# Altium schematic symbol library Microchip PIC12.SchLib: 457 symbols (part 15 of 15)
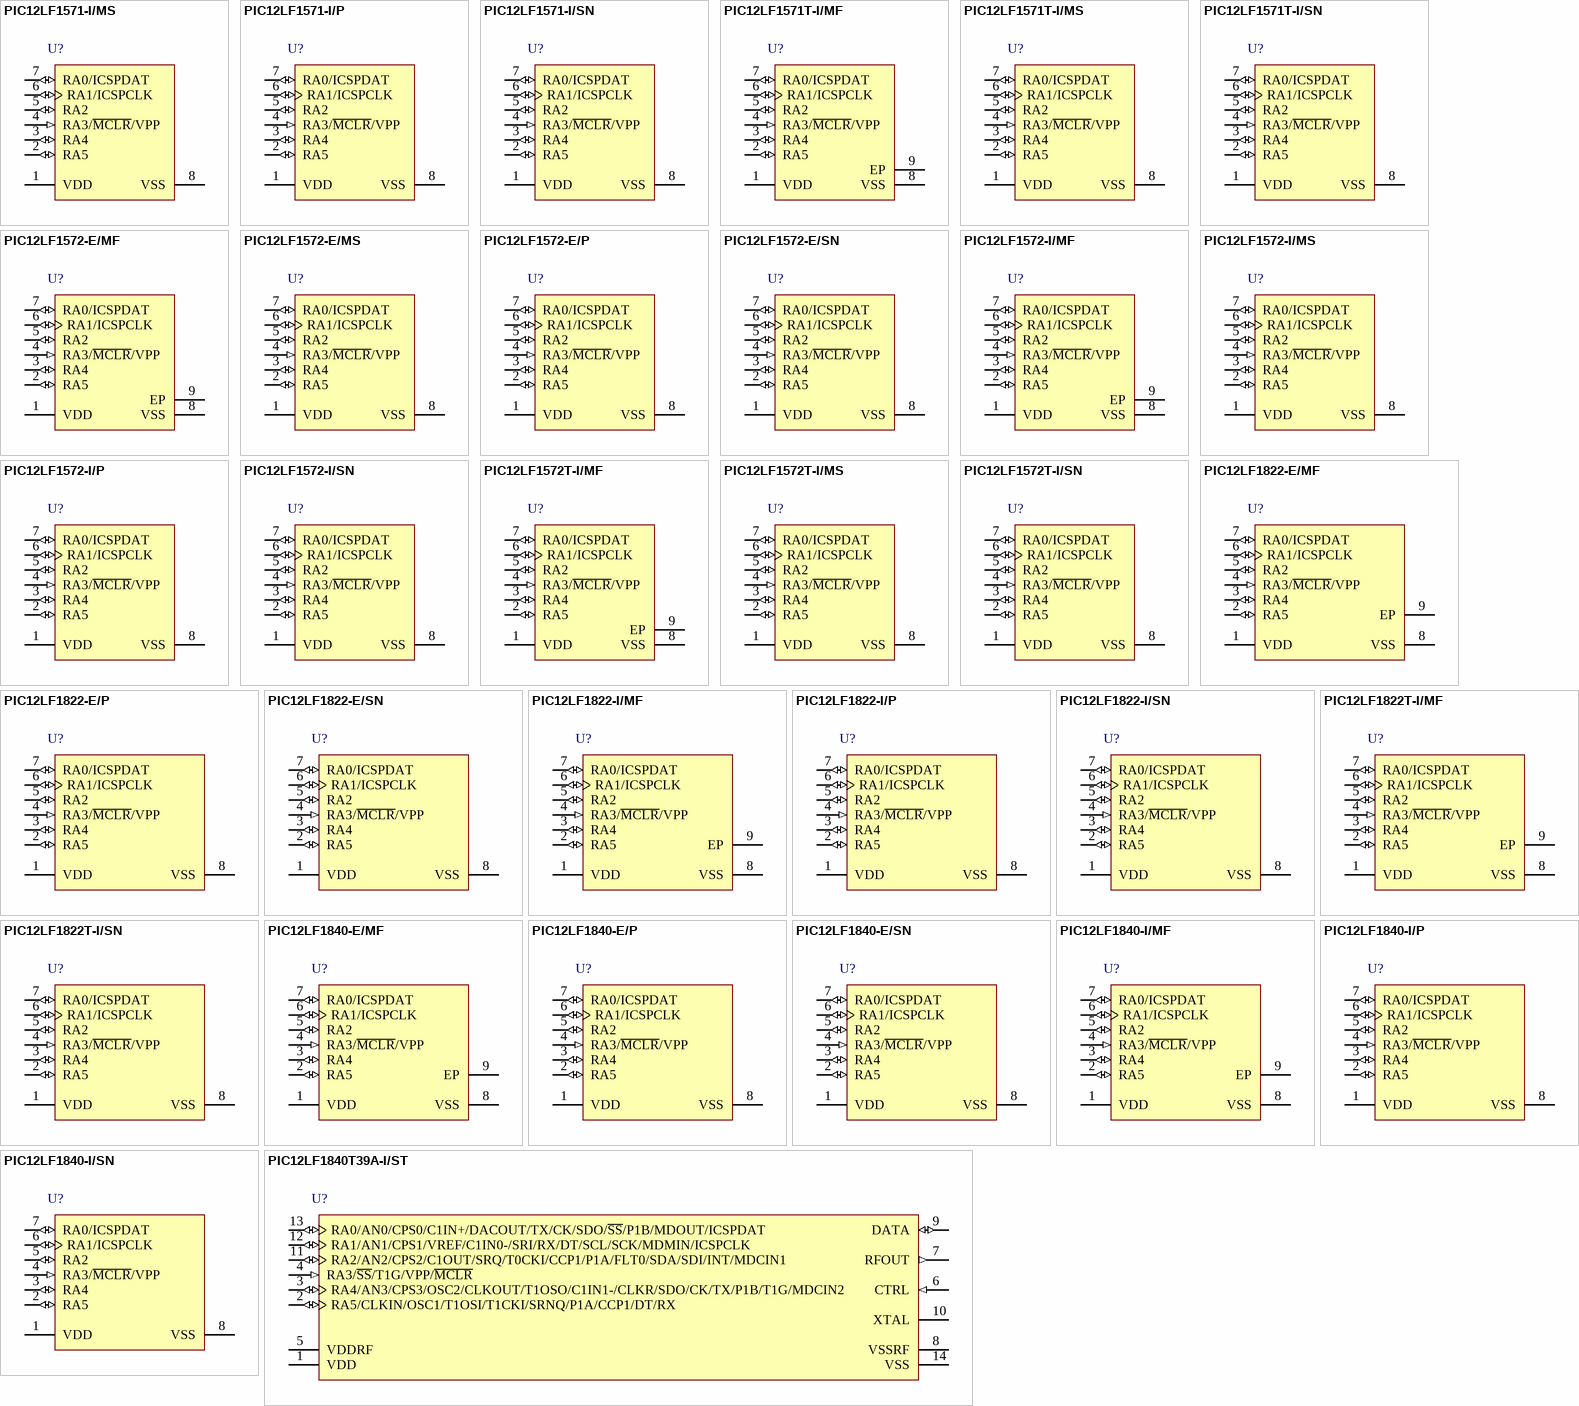
[diagram p29: symbols PIC12LF1571-I/MS to PIC12LF1840T39A-I/ST]

## PIC12LF1822-E/P
designator U?
Flash Microcontroller with XLP Technology, 32 MHz, 5 I/O, -40 to 125 degC, 8-pin PDIP (P8), Tube; Manufacturer: Microchip; PartNumber: PIC12LF1822-E/P; # of A/D Channels: 4; Digital Communication: 1 -A/E/USART, 1 -MSSP(SPI/I2C); EEPROM Data Memory (bytes): 256; I/O Pins: 5; Internal Oscillator: 32 MHz, 31 kHz; Max. CPU Speed MHz: 32; Operation Voltage Range: 1.8V - 3.6V; Program Memory KBytes: 3.5; Program Memory KWords: 2; RAM: 128; Timers: 2 - 8-bit, 1 - 16-bit, 0 - 32-bit; DatasheetVersion: Rev. C; PackageVersion: C04-018B, 12/2012; PackageReference: PDIP-P8; PackageDescription: 8-Lead Plastic Dual In-Line, Row Spacing 7.62 mm, 9.5 x 6.6 mm Body, 2.54 mm Pitch; Supplier 1: Digi-Key; Supplier Part Number 1: PIC12LF1822-E/P-ND; Supplier 2: Mouser; Supplier Part Number 2: 579-PIC12LF1822EP; Memory Type: Flash; Packing: TUBE; Mounting Technology: Through Hole; ComponentLink1Description: Datasheet; ComponentLink1URL: http://ww1.microchip.com/downloads/en/DeviceDoc/41413C.pdf; ComponentLink2Description: Package Specification; ComponentLink2URL: http://www.microchip.com/stellent/groups/techpub_sg/documents/packagingspec/en012702.pdf; ComponentLink3Description: URL Link1; ComponentLink3URL: Product URL:http://www.microchip.com/datasheet/PIC12F1822
footprint MCHP-PDIP-P8 (PDIP, 8-Leads, Body 9.5x6.604mm, Pitch 2.54mm)
pins: 1 VDD (power) "Positive supply.", 2 RA5 (io), 3 RA4 (io), 4 RA3/~{MCLR}/VPP (in), 5 RA2 (io), 6 RA1/ICSPCLK (io), 7 RA0/ICSPDAT (io), 8 VSS (power) "Ground reference."

## PIC12LF1822-E/SN
designator U?
Flash Microcontroller with XLP Technology, 32 MHz, 5 I/O, -40 to 125 degC, 8-pin SOIC (SN8), Tube; Manufacturer: Microchip; PartNumber: PIC12LF1822-E/SN; # of A/D Channels: 4; Digital Communication: 1 -A/E/USART, 1 -MSSP(SPI/I2C); EEPROM Data Memory (bytes): 256; I/O Pins: 5; Internal Oscillator: 32 MHz, 31 kHz; Max. CPU Speed MHz: 32; Operation Voltage Range: 1.8V - 3.6V; Program Memory KBytes: 3.5; Program Memory KWords: 2; RAM: 128; Timers: 2 - 8-bit, 1 - 16-bit, 0 - 32-bit; DatasheetVersion: Rev. C; PackageVersion: C04-057C, 12/2012; PackageReference: SOIC-SN8; PackageDescription: 8-Lead Plastic Small Outline, 4.9 x 3.9 mm Body, 1.27 mm Pitch; Supplier 1: Digi-Key; Supplier Part Number 1: PIC12LF1822-E/SN-ND; Supplier 2: Newark; Supplier Part Number 2: 73R8377; Supplier 3: Mouser; Supplier Part Number 3: 579-PIC12LF1822ESN; Memory Type: Flash; Packing: TUBE; Mounting Technology: Surface Mount; ComponentLink1Description: Datasheet; ComponentLink1URL: http://ww1.microchip.com/downloads/en/DeviceDoc/41413C.pdf; ComponentLink2Description: Package Specification; ComponentLink2URL: http://www.microchip.com/stellent/groups/techpub_sg/documents/packagingspec/en012702.pdf; ComponentLink3Description: URL Link1; ComponentLink3URL: Product URL:http://www.microchip.com/datasheet/PIC12F1822
footprint MCHP-SOIC-SN8_N (SOIC, 8-Leads, Body 4.9x3.9mm, Pitch 1.27mm, IPC Medium Density)
footprint MCHP-SOIC-SN8_L (SOIC, 8-Leads, Body 4.9x3.9mm, Pitch 1.27mm, IPC High Density)
footprint MCHP-SOIC-SN8_M (SOIC, 8-Leads, Body 4.9x3.9mm, Pitch 1.27mm, IPC Low Density)
pins: 1 VDD (power) "Positive supply.", 2 RA5 (io), 3 RA4 (io), 4 RA3/~{MCLR}/VPP (in), 5 RA2 (io), 6 RA1/ICSPCLK (io), 7 RA0/ICSPDAT (io), 8 VSS (power) "Ground reference."

## PIC12LF1822-I/MF
designator U?
Flash Microcontroller with XLP Technology, 32 MHz, 5 I/O, -40 to 85 degC, 8-pin DFN (MF8), Tube; Manufacturer: Microchip; PartNumber: PIC12LF1822-I/MF; # of A/D Channels: 4; Digital Communication: 1 -A/E/USART, 1 -MSSP(SPI/I2C); EEPROM Data Memory (bytes): 256; I/O Pins: 5; Internal Oscillator: 32 MHz, 31 kHz; Max. CPU Speed MHz: 32; Operation Voltage Range: 1.8V - 3.6V; Program Memory KBytes: 3.5; Program Memory KWords: 2; RAM: 128; Timers: 2 - 8-bit, 1 - 16-bit, 0 - 32-bit; DatasheetVersion: Rev. C; PackageVersion: C04-062C, 12/2012; PackageReference: DFN-MF8; PackageDescription: 8-Lead Plastic Dual Flat, No Lead Package, 3 x 3 mm Body, 0.65 mm Pitch; Supplier 1: Digi-Key; Supplier Part Number 1: PIC12LF1822-I/MF-ND; Supplier 2: Farnell; Supplier Part Number 2: 1814914; Supplier 3: Newark; Supplier Part Number 3: 63R7789; Supplier 4: Mouser; Supplier Part Number 4: 579-PIC12LF1822-I/MF; Memory Type: Flash; Packing: TUBE; Mounting Technology: Surface Mount; ComponentLink1Description: Datasheet; ComponentLink1URL: http://ww1.microchip.com/downloads/en/DeviceDoc/41413C.pdf; ComponentLink2Description: Package Specification; ComponentLink2URL: http://www.microchip.com/stellent/groups/techpub_sg/documents/packagingspec/en012702.pdf; ComponentLink3Description: URL Link1; ComponentLink3URL: Product URL:http://www.microchip.com/datasheet/PIC12F1822
footprint MCHP-DFN-MF8_V (SON, 8-Leads, Body 3x3mm, Pitch 0.65mm, Thermal Pad 2.4x1.55mm)
pins: 1 VDD (power) "Positive supply.", 2 RA5 (io), 3 RA4 (io), 4 RA3/~{MCLR}/VPP (in), 5 RA2 (io), 6 RA1/ICSPCLK (io), 7 RA0/ICSPDAT (io), 8 VSS (power) "Ground reference.", 9 EP

## PIC12LF1822-I/P
designator U?
Flash Microcontroller with XLP Technology, 32 MHz, 5 I/O, -40 to 85 degC, 8-pin PDIP (P8), Tube; Manufacturer: Microchip; PartNumber: PIC12LF1822-I/P; # of A/D Channels: 4; Digital Communication: 1 -A/E/USART, 1 -MSSP(SPI/I2C); EEPROM Data Memory (bytes): 256; I/O Pins: 5; Internal Oscillator: 32 MHz, 31 kHz; Max. CPU Speed MHz: 32; Operation Voltage Range: 1.8V - 3.6V; Program Memory KBytes: 3.5; Program Memory KWords: 2; RAM: 128; Timers: 2 - 8-bit, 1 - 16-bit, 0 - 32-bit; DatasheetVersion: Rev. C; PackageVersion: C04-018B, 12/2012; PackageReference: PDIP-P8; PackageDescription: 8-Lead Plastic Dual In-Line, Row Spacing 7.62 mm, 9.5 x 6.6 mm Body, 2.54 mm Pitch; Supplier 1: Digi-Key; Supplier Part Number 1: PIC12LF1822-I/P-ND; Supplier 2: Farnell; Supplier Part Number 2: 1971860; Supplier 3: Newark; Supplier Part Number 3: 53R0213; Supplier 4: Newark; Supplier Part Number 4: 58T9871; Supplier 5: Mouser; Supplier Part Number 5: 579-PIC12LF1822-I/P; Memory Type: Flash; Packing: TUBE; Mounting Technology: Through Hole; ComponentLink1Description: Datasheet; ComponentLink1URL: http://ww1.microchip.com/downloads/en/DeviceDoc/41413C.pdf; ComponentLink2Description: Package Specification; ComponentLink2URL: http://www.microchip.com/stellent/groups/techpub_sg/documents/packagingspec/en012702.pdf; ComponentLink3Description: URL Link1; ComponentLink3URL: Product URL:http://www.microchip.com/datasheet/PIC12F1822
footprint MCHP-PDIP-P8 (PDIP, 8-Leads, Body 9.5x6.604mm, Pitch 2.54mm)
pins: 1 VDD (power) "Positive supply.", 2 RA5 (io), 3 RA4 (io), 4 RA3/~{MCLR}/VPP (in), 5 RA2 (io), 6 RA1/ICSPCLK (io), 7 RA0/ICSPDAT (io), 8 VSS (power) "Ground reference."

## PIC12LF1822-I/SN
designator U?
Flash Microcontroller with XLP Technology, 32 MHz, 5 I/O, -40 to 85 degC, 8-pin SOIC (SN8), Tube; Manufacturer: Microchip; PartNumber: PIC12LF1822-I/SN; # of A/D Channels: 4; Digital Communication: 1 -A/E/USART, 1 -MSSP(SPI/I2C); EEPROM Data Memory (bytes): 256; I/O Pins: 5; Internal Oscillator: 32 MHz, 31 kHz; Max. CPU Speed MHz: 32; Operation Voltage Range: 1.8V - 3.6V; Program Memory KBytes: 3.5; Program Memory KWords: 2; RAM: 128; Timers: 2 - 8-bit, 1 - 16-bit, 0 - 32-bit; DatasheetVersion: Rev. C; PackageVersion: C04-057C, 12/2012; PackageReference: SOIC-SN8; PackageDescription: 8-Lead Plastic Small Outline, 4.9 x 3.9 mm Body, 1.27 mm Pitch; Supplier 1: Digi-Key; Supplier Part Number 1: PIC12LF1822-I/SN-ND; Supplier 2: Farnell; Supplier Part Number 2: 1971861; Supplier 3: Newark; Supplier Part Number 3: 53R0214; Supplier 4: Mouser; Supplier Part Number 4: 579-PIC12LF1822-I/SN; Memory Type: Flash; Packing: TUBE; Mounting Technology: Surface Mount; ComponentLink1Description: Datasheet; ComponentLink1URL: http://ww1.microchip.com/downloads/en/DeviceDoc/41413C.pdf; ComponentLink2Description: Package Specification; ComponentLink2URL: http://www.microchip.com/stellent/groups/techpub_sg/documents/packagingspec/en012702.pdf; ComponentLink3Description: URL Link1; ComponentLink3URL: Product URL:http://www.microchip.com/datasheet/PIC12F1822
footprint MCHP-SOIC-SN8_N (SOIC, 8-Leads, Body 4.9x3.9mm, Pitch 1.27mm, IPC Medium Density)
footprint MCHP-SOIC-SN8_L (SOIC, 8-Leads, Body 4.9x3.9mm, Pitch 1.27mm, IPC High Density)
footprint MCHP-SOIC-SN8_M (SOIC, 8-Leads, Body 4.9x3.9mm, Pitch 1.27mm, IPC Low Density)
pins: 1 VDD (power) "Positive supply.", 2 RA5 (io), 3 RA4 (io), 4 RA3/~{MCLR}/VPP (in), 5 RA2 (io), 6 RA1/ICSPCLK (io), 7 RA0/ICSPDAT (io), 8 VSS (power) "Ground reference."

## PIC12LF1822T-I/MF
designator U?
Flash Microcontroller with XLP Technology, 32 MHz, 5 I/O, -40 to 85 degC, 8-pin DFN (MF8), Tape and Reel; Manufacturer: Microchip; PartNumber: PIC12LF1822T-I/MF; # of A/D Channels: 4; Digital Communication: 1 -A/E/USART, 1 -MSSP(SPI/I2C); EEPROM Data Memory (bytes): 256; I/O Pins: 5; Internal Oscillator: 32 MHz, 31 kHz; Max. CPU Speed MHz: 32; Operation Voltage Range: 1.8V - 3.6V; Packing: T/R; Program Memory KBytes: 3.5; Program Memory KWords: 2; RAM: 128; Timers: 2 - 8-bit, 1 - 16-bit, 0 - 32-bit; DatasheetVersion: Rev. C; PackageVersion: C04-062C, 12/2012; PackageReference: DFN-MF8; PackageDescription: 8-Lead Plastic Dual Flat, No Lead Package, 3 x 3 mm Body, 0.65 mm Pitch; Supplier 1: Digi-Key; Supplier Part Number 1: PIC12LF1822T-I/MF-ND; Supplier 2: Newark; Supplier Part Number 2: 63R7790; Supplier 3: Mouser; Supplier Part Number 3: 579-PIC12LF1822TI/MF; Memory Type: Flash; Mounting Technology: Surface Mount; ComponentLink1Description: Datasheet; ComponentLink1URL: http://ww1.microchip.com/downloads/en/DeviceDoc/41413C.pdf; ComponentLink2Description: Package Specification; ComponentLink2URL: http://www.microchip.com/stellent/groups/techpub_sg/documents/packagingspec/en012702.pdf; ComponentLink3Description: URL Link1; ComponentLink3URL: Product URL:http://www.microchip.com/datasheet/PIC12F1822
footprint MCHP-DFN-MF8_V (SON, 8-Leads, Body 3x3mm, Pitch 0.65mm, Thermal Pad 2.4x1.55mm)
pins: 1 VDD (power) "Positive supply.", 2 RA5 (io), 3 RA4 (io), 4 RA3/~{MCLR}/VPP (in), 5 RA2 (io), 6 RA1/ICSPCLK (io), 7 RA0/ICSPDAT (io), 8 VSS (power) "Ground reference.", 9 EP

## PIC12LF1822T-I/SN
designator U?
Flash Microcontroller with XLP Technology, 32 MHz, 5 I/O, -40 to 85 degC, 8-pin SOIC (SN8), Tape and Reel; Manufacturer: Microchip; PartNumber: PIC12LF1822T-I/SN; # of A/D Channels: 4; Digital Communication: 1 -A/E/USART, 1 -MSSP(SPI/I2C); EEPROM Data Memory (bytes): 256; I/O Pins: 5; Internal Oscillator: 32 MHz, 31 kHz; Max. CPU Speed MHz: 32; Operation Voltage Range: 1.8V - 3.6V; Packing: T/R; Program Memory KBytes: 3.5; Program Memory KWords: 2; RAM: 128; Timers: 2 - 8-bit, 1 - 16-bit, 0 - 32-bit; DatasheetVersion: Rev. C; PackageVersion: C04-057C, 12/2012; PackageReference: SOIC-SN8; PackageDescription: 8-Lead Plastic Small Outline, 4.9 x 3.9 mm Body, 1.27 mm Pitch; Supplier 1: Digi-Key; Supplier Part Number 1: PIC12LF1822T-I/SN-ND; Supplier 2: Mouser; Supplier Part Number 2: 579-PIC12LF1822TI/SN; Memory Type: Flash; Mounting Technology: Surface Mount; ComponentLink1Description: Datasheet; ComponentLink1URL: http://ww1.microchip.com/downloads/en/DeviceDoc/41413C.pdf; ComponentLink2Description: Package Specification; ComponentLink2URL: http://www.microchip.com/stellent/groups/techpub_sg/documents/packagingspec/en012702.pdf; ComponentLink3Description: URL Link1; ComponentLink3URL: Product URL:http://www.microchip.com/datasheet/PIC12F1822
footprint MCHP-SOIC-SN8_N (SOIC, 8-Leads, Body 4.9x3.9mm, Pitch 1.27mm, IPC Medium Density)
footprint MCHP-SOIC-SN8_L (SOIC, 8-Leads, Body 4.9x3.9mm, Pitch 1.27mm, IPC High Density)
footprint MCHP-SOIC-SN8_M (SOIC, 8-Leads, Body 4.9x3.9mm, Pitch 1.27mm, IPC Low Density)
pins: 1 VDD (power) "Positive supply.", 2 RA5 (io), 3 RA4 (io), 4 RA3/~{MCLR}/VPP (in), 5 RA2 (io), 6 RA1/ICSPCLK (io), 7 RA0/ICSPDAT (io), 8 VSS (power) "Ground reference."

## PIC12LF1840-E/MF
designator U?
Flash Microcontroller with XLP Technology, 32 MHz, 5 I/O, -40 to 125 degC, 8-pin DFN (MF8), Tube; Manufacturer: Microchip; PartNumber: PIC12LF1840-E/MF; # of A/D Channels: 4; Digital Communication: 1 -A/E/USART, 1 -MSSP(SPI/I2C); EEPROM Data Memory (bytes): 256; I/O Pins: 5; Internal Oscillator: 32 MHz, 31 kHz; Max. CPU Speed MHz: 32; Operation Voltage Range: 1.8V - 3.6V; Program Memory KBytes: 7; Timers: 2 - 8-bit, 1 - 16-bit, 0 - 32-bit; DatasheetVersion: Rev. C; PackageVersion: C04-062C, 12/2012; PackageReference: DFN-MF8; PackageDescription: 8-Lead Plastic Dual Flat, No Lead Package, 3 x 3 mm Body, 0.65 mm Pitch; Supplier 1: Digi-Key; Supplier Part Number 1: PIC12LF1840-E/MF-ND; Supplier 2: Mouser; Supplier Part Number 2: 579-PIC12LF1840-E/MF; Memory Type: Flash; Packing: TUBE; Program Memory KWords: 4; RAM: 256; Mounting Technology: Surface Mount; ComponentLink1Description: Datasheet; ComponentLink1URL: http://ww1.microchip.com/downloads/en/DeviceDoc/41441C.pdf; ComponentLink2Description: Package Specification; ComponentLink2URL: http://www.microchip.com/stellent/groups/techpub_sg/documents/packagingspec/en012702.pdf; ComponentLink3Description: URL Link1; ComponentLink3URL: Product URL:http://www.microchip.com/datasheet/PIC12F1840
footprint MCHP-DFN-MF8_V (SON, 8-Leads, Body 3x3mm, Pitch 0.65mm, Thermal Pad 2.4x1.55mm)
pins: 1 VDD (power) "Positive supply.", 2 RA5 (io), 3 RA4 (io), 4 RA3/~{MCLR}/VPP (in), 5 RA2 (io), 6 RA1/ICSPCLK (io), 7 RA0/ICSPDAT (io), 8 VSS (power) "Ground reference.", 9 EP

## PIC12LF1840-E/P
designator U?
Flash Microcontroller with XLP Technology, 32 MHz, 5 I/O, -40 to 125 degC, 8-pin PDIP (P8), Tube; Manufacturer: Microchip; PartNumber: PIC12LF1840-E/P; # of A/D Channels: 4; Digital Communication: 1 -A/E/USART, 1 -MSSP(SPI/I2C); EEPROM Data Memory (bytes): 256; I/O Pins: 5; Internal Oscillator: 32 MHz, 31 kHz; Max. CPU Speed MHz: 32; Operation Voltage Range: 1.8V - 3.6V; Program Memory KBytes: 7; Timers: 2 - 8-bit, 1 - 16-bit, 0 - 32-bit; DatasheetVersion: Rev. C; PackageVersion: C04-018B, 12/2012; PackageReference: PDIP-P8; PackageDescription: 8-Lead Plastic Dual In-Line, Row Spacing 7.62 mm, 9.5 x 6.6 mm Body, 2.54 mm Pitch; Supplier 1: Digi-Key; Supplier Part Number 1: PIC12LF1840-E/P-ND; Supplier 2: Mouser; Supplier Part Number 2: 579-PIC12LF1840-E/P; Memory Type: Flash; Packing: TUBE; Program Memory KWords: 4; RAM: 256; Mounting Technology: Through Hole; ComponentLink1Description: Datasheet; ComponentLink1URL: http://ww1.microchip.com/downloads/en/DeviceDoc/41441C.pdf; ComponentLink2Description: Package Specification; ComponentLink2URL: http://www.microchip.com/stellent/groups/techpub_sg/documents/packagingspec/en012702.pdf; ComponentLink3Description: URL Link1; ComponentLink3URL: Product URL:http://www.microchip.com/datasheet/PIC12F1840
footprint MCHP-PDIP-P8 (PDIP, 8-Leads, Body 9.5x6.604mm, Pitch 2.54mm)
pins: 1 VDD (power) "Positive supply.", 2 RA5 (io), 3 RA4 (io), 4 RA3/~{MCLR}/VPP (in), 5 RA2 (io), 6 RA1/ICSPCLK (io), 7 RA0/ICSPDAT (io), 8 VSS (power) "Ground reference."

## PIC12LF1840-E/SN
designator U?
Flash Microcontroller with XLP Technology, 32 MHz, 5 I/O, -40 to 125 degC, 8-pin SOIC (SN8), Tube; Manufacturer: Microchip; PartNumber: PIC12LF1840-E/SN; # of A/D Channels: 4; Digital Communication: 1 -A/E/USART, 1 -MSSP(SPI/I2C); EEPROM Data Memory (bytes): 256; I/O Pins: 5; Internal Oscillator: 32 MHz, 31 kHz; Max. CPU Speed MHz: 32; Operation Voltage Range: 1.8V - 3.6V; Program Memory KBytes: 7; Timers: 2 - 8-bit, 1 - 16-bit, 0 - 32-bit; DatasheetVersion: Rev. C; PackageVersion: C04-057C, 12/2012; PackageReference: SOIC-SN8; PackageDescription: 8-Lead Plastic Small Outline, 4.9 x 3.9 mm Body, 1.27 mm Pitch; Supplier 1: Digi-Key; Supplier Part Number 1: PIC12LF1840-E/SN-ND; Supplier 2: Newark; Supplier Part Number 2: 13T4713; Supplier 3: Mouser; Supplier Part Number 3: 579-PIC12LF1840-E/SN; Memory Type: Flash; Packing: TUBE; Program Memory KWords: 4; RAM: 256; Mounting Technology: Surface Mount; ComponentLink1Description: Datasheet; ComponentLink1URL: http://ww1.microchip.com/downloads/en/DeviceDoc/41441C.pdf; ComponentLink2Description: Package Specification; ComponentLink2URL: http://www.microchip.com/stellent/groups/techpub_sg/documents/packagingspec/en012702.pdf; ComponentLink3Description: URL Link1; ComponentLink3URL: Product URL:http://www.microchip.com/datasheet/PIC12F1840
footprint MCHP-SOIC-SN8_N (SOIC, 8-Leads, Body 4.9x3.9mm, Pitch 1.27mm, IPC Medium Density)
footprint MCHP-SOIC-SN8_L (SOIC, 8-Leads, Body 4.9x3.9mm, Pitch 1.27mm, IPC High Density)
footprint MCHP-SOIC-SN8_M (SOIC, 8-Leads, Body 4.9x3.9mm, Pitch 1.27mm, IPC Low Density)
pins: 1 VDD (power) "Positive supply.", 2 RA5 (io), 3 RA4 (io), 4 RA3/~{MCLR}/VPP (in), 5 RA2 (io), 6 RA1/ICSPCLK (io), 7 RA0/ICSPDAT (io), 8 VSS (power) "Ground reference."

## PIC12LF1840-I/MF
designator U?
Flash Microcontroller with XLP Technology, 32 MHz, 5 I/O, -40 to 85 degC, 8-pin DFN (MF8), Tube; Manufacturer: Microchip; PartNumber: PIC12LF1840-I/MF; # of A/D Channels: 4; Digital Communication: 1 -A/E/USART, 1 -MSSP(SPI/I2C); EEPROM Data Memory (bytes): 256; I/O Pins: 5; Internal Oscillator: 32 MHz, 31 kHz; Max. CPU Speed MHz: 32; Operation Voltage Range: 1.8V - 3.6V; Program Memory KBytes: 7; Timers: 2 - 8-bit, 1 - 16-bit, 0 - 32-bit; DatasheetVersion: Rev. C; PackageVersion: C04-062C, 12/2012; PackageReference: DFN-MF8; PackageDescription: 8-Lead Plastic Dual Flat, No Lead Package, 3 x 3 mm Body, 0.65 mm Pitch; Supplier 1: Digi-Key; Supplier Part Number 1: PIC12LF1840-I/MF-ND; Supplier 2: Farnell; Supplier Part Number 2: 2318013; Supplier 3: Newark; Supplier Part Number 3: 13T4714; Supplier 4: Mouser; Supplier Part Number 4: 579-PIC12LF1840-I/MF; Memory Type: Flash; Packing: TUBE; Program Memory KWords: 4; RAM: 256; Mounting Technology: Surface Mount; ComponentLink1Description: Datasheet; ComponentLink1URL: http://ww1.microchip.com/downloads/en/DeviceDoc/41441C.pdf; ComponentLink2Description: Package Specification; ComponentLink2URL: http://www.microchip.com/stellent/groups/techpub_sg/documents/packagingspec/en012702.pdf; ComponentLink3Description: URL Link1; ComponentLink3URL: Product URL:http://www.microchip.com/datasheet/PIC12F1840
footprint MCHP-DFN-MF8_V (SON, 8-Leads, Body 3x3mm, Pitch 0.65mm, Thermal Pad 2.4x1.55mm)
pins: 1 VDD (power) "Positive supply.", 2 RA5 (io), 3 RA4 (io), 4 RA3/~{MCLR}/VPP (in), 5 RA2 (io), 6 RA1/ICSPCLK (io), 7 RA0/ICSPDAT (io), 8 VSS (power) "Ground reference.", 9 EP

## PIC12LF1840-I/P
designator U?
Flash Microcontroller with XLP Technology, 32 MHz, 5 I/O, -40 to 85 degC, 8-pin PDIP (P8), Tube; Manufacturer: Microchip; PartNumber: PIC12LF1840-I/P; # of A/D Channels: 4; Digital Communication: 1 -A/E/USART, 1 -MSSP(SPI/I2C); EEPROM Data Memory (bytes): 256; I/O Pins: 5; Internal Oscillator: 32 MHz, 31 kHz; Max. CPU Speed MHz: 32; Operation Voltage Range: 1.8V - 3.6V; Program Memory KBytes: 7; Timers: 2 - 8-bit, 1 - 16-bit, 0 - 32-bit; DatasheetVersion: Rev. C; PackageVersion: C04-018B, 12/2012; PackageReference: PDIP-P8; PackageDescription: 8-Lead Plastic Dual In-Line, Row Spacing 7.62 mm, 9.5 x 6.6 mm Body, 2.54 mm Pitch; Supplier 1: Digi-Key; Supplier Part Number 1: PIC12LF1840-I/P-ND; Supplier 2: Farnell; Supplier Part Number 2: 1971862; Supplier 3: Newark; Supplier Part Number 3: 13T4715; Supplier 4: Newark; Supplier Part Number 4: 73T9375; Supplier 5: Mouser; Supplier Part Number 5: 579-PIC12LF1840-I/P; Memory Type: Flash; Packing: TUBE; Program Memory KWords: 4; RAM: 256; Mounting Technology: Through Hole; ComponentLink1Description: Datasheet; ComponentLink1URL: http://ww1.microchip.com/downloads/en/DeviceDoc/41441C.pdf; ComponentLink2Description: Package Specification; ComponentLink2URL: http://www.microchip.com/stellent/groups/techpub_sg/documents/packagingspec/en012702.pdf; ComponentLink3Description: URL Link1; ComponentLink3URL: Product URL:http://www.microchip.com/datasheet/PIC12F1840
footprint MCHP-PDIP-P8 (PDIP, 8-Leads, Body 9.5x6.604mm, Pitch 2.54mm)
pins: 1 VDD (power) "Positive supply.", 2 RA5 (io), 3 RA4 (io), 4 RA3/~{MCLR}/VPP (in), 5 RA2 (io), 6 RA1/ICSPCLK (io), 7 RA0/ICSPDAT (io), 8 VSS (power) "Ground reference."

## PIC12LF1840-I/SN
designator U?
Flash Microcontroller with XLP Technology, 32 MHz, 5 I/O, -40 to 85 degC, 8-pin SOIC (SN8), Tube; Manufacturer: Microchip; PartNumber: PIC12LF1840-I/SN; # of A/D Channels: 4; Digital Communication: 1 -A/E/USART, 1 -MSSP(SPI/I2C); EEPROM Data Memory (bytes): 256; I/O Pins: 5; Internal Oscillator: 32 MHz, 31 kHz; Max. CPU Speed MHz: 32; Operation Voltage Range: 1.8V - 3.6V; Program Memory KBytes: 7; Timers: 2 - 8-bit, 1 - 16-bit, 0 - 32-bit; DatasheetVersion: Rev. C; PackageVersion: C04-057C, 12/2012; PackageReference: SOIC-SN8; PackageDescription: 8-Lead Plastic Small Outline, 4.9 x 3.9 mm Body, 1.27 mm Pitch; Supplier 1: Digi-Key; Supplier Part Number 1: PIC12LF1840-I/SN-ND; Supplier 2: Farnell; Supplier Part Number 2: 1971863; Supplier 3: Newark; Supplier Part Number 3: 13T4716; Supplier 4: Mouser; Supplier Part Number 4: 579-PIC12LF1840-I/SN; Memory Type: Flash; Packing: TUBE; Program Memory KWords: 4; RAM: 256; Mounting Technology: Surface Mount; ComponentLink1Description: Datasheet; ComponentLink1URL: http://ww1.microchip.com/downloads/en/DeviceDoc/41441C.pdf; ComponentLink2Description: Package Specification; ComponentLink2URL: http://www.microchip.com/stellent/groups/techpub_sg/documents/packagingspec/en012702.pdf; ComponentLink3Description: URL Link1; ComponentLink3URL: Product URL:http://www.microchip.com/datasheet/PIC12F1840
footprint MCHP-SOIC-SN8_N (SOIC, 8-Leads, Body 4.9x3.9mm, Pitch 1.27mm, IPC Medium Density)
footprint MCHP-SOIC-SN8_L (SOIC, 8-Leads, Body 4.9x3.9mm, Pitch 1.27mm, IPC High Density)
footprint MCHP-SOIC-SN8_M (SOIC, 8-Leads, Body 4.9x3.9mm, Pitch 1.27mm, IPC Low Density)
pins: 1 VDD (power) "Positive supply.", 2 RA5 (io), 3 RA4 (io), 4 RA3/~{MCLR}/VPP (in), 5 RA2 (io), 6 RA1/ICSPCLK (io), 7 RA0/ICSPDAT (io), 8 VSS (power) "Ground reference."

## PIC12LF1840T39A-I/ST
designator U?
8-Bit Flash Microcontroller with XLP Technology, 32 MHz, 5 I/O, -40 to 85 degC, 14-pin TSSOP (ST14), Tube; Manufacturer: Microchip; PartNumber: PIC12LF1840T39A-I/ST; # of A/D Channels: 4; EEPROM Data Memory (bytes): 256; I/O Pins: 5; Internal Oscillator: 32 MHz, 31 kHz; Max. CPU Speed MHz: 32; Operation Voltage Range: 1.8V - 3.6V; Program Memory KBytes: 7; Timers: 2 - 8-bit, 1 - 16-bit; DatasheetVersion: Rev. A; PackageVersion: C04-087C, 12/2012; PackageReference: TSSOP-ST14; PackageDescription: 14-Lead Plastic Thin Shrink Small Outline, 5 x 4.4 mm Body, 0.65 mm Pitch; Supplier 1: Digi-Key; Supplier Part Number 1: PIC12LF1840T39A-I/ST-ND; Supplier 2: Farnell; Supplier Part Number 2: 2318422; Supplier 3: Newark; Supplier Part Number 3: 79T6343; Supplier 4: Mouser; Supplier Part Number 4: 579-PC12LF1840T39AIS; Memory Type: Flash; Packing: TUBE; Program Memory KWords: 4; RAM: 256; RoHS: TRUE; Mounting Technology: Surface Mount; ComponentLink1Description: Datasheet; ComponentLink1URL: http://ww1.microchip.com/downloads/en/DeviceDoc/41636A.pdf; ComponentLink2Description: Package Specification; ComponentLink2URL: http://www.microchip.com/stellent/groups/techpub_sg/documents/packagingspec/en012702.pdf; ComponentLink3Description: URL Link1; ComponentLink3URL: Product URL:http://www.microchip.com/datasheet/PIC12LF1840T39A
footprint MCHP-TSSOP-ST14_N (SOP, 14-Leads, Body 5x4.4mm, Pitch 0.65mm, IPC Medium Density)
footprint MCHP-TSSOP-ST14_L (SOP, 14-Leads, Body 5x4.4mm, Pitch 0.65mm, IPC High Density)
footprint MCHP-TSSOP-ST14_M (SOP, 14-Leads, Body 5x4.4mm, Pitch 0.65mm, IPC Low Density)
pins: 1 VDD (power) "Positive supply.", 2 RA5/CLKIN/OSC1/T1OSI/T1CKI/SRNQ/P1A/CCP1/DT/RX (io), 3 RA4/AN3/CPS3/OSC2/CLKOUT/T1OSO/C1IN1-/CLKR/SDO/CK/TX/P1B/T1G/MDCIN2 (io), 4 RA3/~{SS}/T1G/VPP/~{MCLR} (in), 5 VDDRF (power) "RF Power Supply", 6 CTRL (in) "Configuration Selection and Configuration Clock", 7 RFOUT (out) "Transmitter RF output", 8 VSSRF (power) "Ground reference", 9 DATA (io) "Configuration Data and Transmit Data", 10 XTAL "Crystal Oscillator", 11 RA2/AN2/CPS2/C1OUT/SRQ/T0CKI/CCP1/P1A/FLT0/SDA/SDI/INT/MDCIN1 (io), 12 RA1/AN1/CPS1/VREF/C1IN0-/SRI/RX/DT/SCL/SCK/MDMIN/ICSPCLK (io), 13 RA0/AN0/CPS0/C1IN+/DACOUT/TX/CK/SDO/~{SS}/P1B/MDOUT/ICSPDAT (io), 14 VSS (power) "Ground reference"

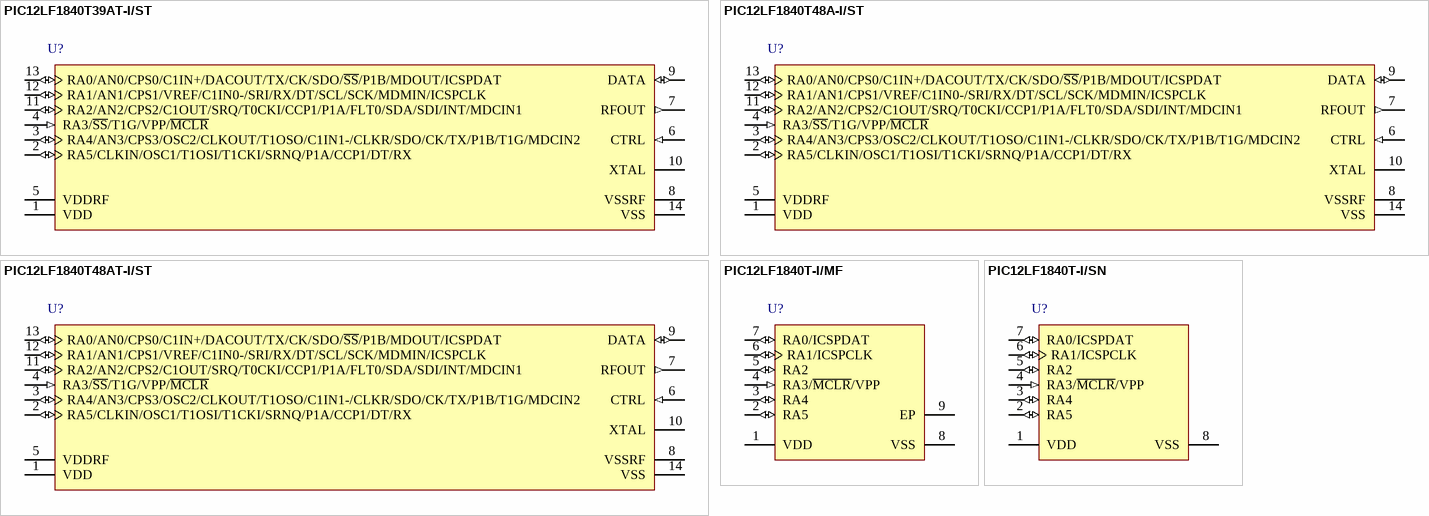
[diagram p15: symbols PIC12LF1840T39AT-I/ST to PIC12LF1840T-I/SN]

## PIC12LF1840T39AT-I/ST
designator U?
8-Bit Flash Microcontroller with XLP Technology, 32 MHz, 5 I/O, -40 to 85 degC, 14-pin TSSOP (ST14), Tape and Reel; Manufacturer: Microchip; PartNumber: PIC12LF1840T39AT-I/ST; # of A/D Channels: 4; EEPROM Data Memory (bytes): 256; I/O Pins: 5; Internal Oscillator: 32 MHz, 31 kHz; Max. CPU Speed MHz: 32; Operation Voltage Range: 1.8V - 3.6V; Packing: T/R; Program Memory KBytes: 7; Timers: 2 - 8-bit, 1 - 16-bit; DatasheetVersion: Rev. A; PackageVersion: C04-087C, 12/2012; PackageReference: TSSOP-ST14; PackageDescription: 14-Lead Plastic Thin Shrink Small Outline, 5 x 4.4 mm Body, 0.65 mm Pitch; Supplier 1: Digi-Key; Supplier Part Number 1: PIC12LF1840T39AT-I/ST-ND; Supplier 2: Newark; Supplier Part Number 2: 79T6344; Supplier 3: Mouser; Supplier Part Number 3: 579-P12LF1840T39ATIS; Memory Type: Flash; Program Memory KWords: 4; RAM: 256; RoHS: TRUE; Mounting Technology: Surface Mount; ComponentLink1Description: Datasheet; ComponentLink1URL: http://ww1.microchip.com/downloads/en/DeviceDoc/41636A.pdf; ComponentLink2Description: Package Specification; ComponentLink2URL: http://www.microchip.com/stellent/groups/techpub_sg/documents/packagingspec/en012702.pdf; ComponentLink3Description: URL Link1; ComponentLink3URL: Product URL:http://www.microchip.com/datasheet/PIC12LF1840T39A
footprint MCHP-TSSOP-ST14_N (SOP, 14-Leads, Body 5x4.4mm, Pitch 0.65mm, IPC Medium Density)
footprint MCHP-TSSOP-ST14_L (SOP, 14-Leads, Body 5x4.4mm, Pitch 0.65mm, IPC High Density)
footprint MCHP-TSSOP-ST14_M (SOP, 14-Leads, Body 5x4.4mm, Pitch 0.65mm, IPC Low Density)
pins: 1 VDD (power) "Positive supply.", 2 RA5/CLKIN/OSC1/T1OSI/T1CKI/SRNQ/P1A/CCP1/DT/RX (io), 3 RA4/AN3/CPS3/OSC2/CLKOUT/T1OSO/C1IN1-/CLKR/SDO/CK/TX/P1B/T1G/MDCIN2 (io), 4 RA3/~{SS}/T1G/VPP/~{MCLR} (in), 5 VDDRF (power) "RF Power Supply", 6 CTRL (in) "Configuration Selection and Configuration Clock", 7 RFOUT (out) "Transmitter RF output", 8 VSSRF (power) "Ground reference", 9 DATA (io) "Configuration Data and Transmit Data", 10 XTAL "Crystal Oscillator", 11 RA2/AN2/CPS2/C1OUT/SRQ/T0CKI/CCP1/P1A/FLT0/SDA/SDI/INT/MDCIN1 (io), 12 RA1/AN1/CPS1/VREF/C1IN0-/SRI/RX/DT/SCL/SCK/MDMIN/ICSPCLK (io), 13 RA0/AN0/CPS0/C1IN+/DACOUT/TX/CK/SDO/~{SS}/P1B/MDOUT/ICSPDAT (io), 14 VSS (power) "Ground reference"

## PIC12LF1840T48A-I/ST
designator U?
8-Bit Flash Microcontroller with nanoWatt XLP Technology, 32 MHz, 5 I/O, -40 to 85 degC, 14-pin TSSOP (ST14), Tube; Manufacturer: Microchip; PartNumber: PIC12LF1840T48A-I/ST; # of A/D Channels: 4; Digital Communication: 1 -A/E/USART, 1 -MSSP(SPI/I2C); EEPROM Data Memory (bytes): 256; I/O Pins: 5; Internal Oscillator: 32 MHz, 31 kHz; Max. CPU Speed MHz: 32; Operation Voltage Range: 1.8V - 3.6V; Program Memory KBytes: 7; Timers: 2 - 8-bit, 1 - 16-bit; DatasheetVersion: Rev. B; PackageVersion: C04-087C, 12/2012; PackageReference: TSSOP-ST14; PackageDescription: 14-Lead Plastic Thin Shrink Small Outline, 5 x 4.4 mm Body, 0.65 mm Pitch; Supplier 1: Digi-Key; Supplier Part Number 1: PIC12LF1840T48A-I/ST-ND; Supplier 2: Farnell; Supplier Part Number 2: 2079053; Supplier 3: Newark; Supplier Part Number 3: 55T3626; Supplier 4: Mouser; Supplier Part Number 4: 579-12LF1840T48AIST; Memory Type: Flash; Packing: TUBE; Program Memory KWords: 4; RAM: 256; RoHS: TRUE; Mounting Technology: Surface Mount; ComponentLink1Description: Datasheet; ComponentLink1URL: http://ww1.microchip.com/downloads/en/DeviceDoc/41594B.pdf; ComponentLink2Description: Package Specification; ComponentLink2URL: http://www.microchip.com/stellent/groups/techpub_sg/documents/packagingspec/en012702.pdf; ComponentLink3Description: URL Link1; ComponentLink3URL: Product URL:http://www.microchip.com/datasheet/PIC12LF1840T48A
footprint MCHP-TSSOP-ST14_N (SOP, 14-Leads, Body 5x4.4mm, Pitch 0.65mm, IPC Medium Density)
footprint MCHP-TSSOP-ST14_L (SOP, 14-Leads, Body 5x4.4mm, Pitch 0.65mm, IPC High Density)
footprint MCHP-TSSOP-ST14_M (SOP, 14-Leads, Body 5x4.4mm, Pitch 0.65mm, IPC Low Density)
pins: 1 VDD (power) "Positive supply.", 2 RA5/CLKIN/OSC1/T1OSI/T1CKI/SRNQ/P1A/CCP1/DT/RX (io), 3 RA4/AN3/CPS3/OSC2/CLKOUT/T1OSO/C1IN1-/CLKR/SDO/CK/TX/P1B/T1G/MDCIN2 (io), 4 RA3/~{SS}/T1G/VPP/~{MCLR} (in), 5 VDDRF (power) "Positive supply.", 6 CTRL (in), 7 RFOUT (out), 8 VSSRF (power) "Ground reference", 9 DATA (io), 10 XTAL, 11 RA2/AN2/CPS2/C1OUT/SRQ/T0CKI/CCP1/P1A/FLT0/SDA/SDI/INT/MDCIN1 (io), 12 RA1/AN1/CPS1/VREF/C1IN0-/SRI/RX/DT/SCL/SCK/MDMIN/ICSPCLK (io), 13 RA0/AN0/CPS0/C1IN+/DACOUT/TX/CK/SDO/~{SS}/P1B/MDOUT/ICSPDAT (io), 14 VSS (power) "Ground reference"

## PIC12LF1840T48AT-I/ST
designator U?
8-Bit Flash Microcontroller with nanoWatt XLP Technology, 32 MHz, 5 I/O, -40 to 85 degC, 14-pin TSSOP (ST14), Tape and Reel; Manufacturer: Microchip; PartNumber: PIC12LF1840T48AT-I/ST; # of A/D Channels: 4; Digital Communication: 1 -A/E/USART, 1 -MSSP(SPI/I2C); EEPROM Data Memory (bytes): 256; I/O Pins: 5; Internal Oscillator: 32 MHz, 31 kHz; Max. CPU Speed MHz: 32; Operation Voltage Range: 1.8V - 3.6V; Packing: T/R; Program Memory KBytes: 7; Timers: 2 - 8-bit, 1 - 16-bit; DatasheetVersion: Rev. B; PackageVersion: C04-087C, 12/2012; PackageReference: TSSOP-ST14; PackageDescription: 14-Lead Plastic Thin Shrink Small Outline, 5 x 4.4 mm Body, 0.65 mm Pitch; Supplier 1: Digi-Key; Supplier Part Number 1: PIC12LF1840T48AT-I/ST-ND; Supplier 2: Newark; Supplier Part Number 2: 55T3627; Supplier 3: Mouser; Supplier Part Number 3: 579-12LF1840T48ATIST; Memory Type: Flash; Program Memory KWords: 4; RAM: 256; RoHS: TRUE; Mounting Technology: Surface Mount; ComponentLink1Description: Datasheet; ComponentLink1URL: http://ww1.microchip.com/downloads/en/DeviceDoc/41594B.pdf; ComponentLink2Description: Package Specification; ComponentLink2URL: http://www.microchip.com/stellent/groups/techpub_sg/documents/packagingspec/en012702.pdf; ComponentLink3Description: URL Link1; ComponentLink3URL: Product URL:http://www.microchip.com/datasheet/PIC12LF1840T48A
footprint MCHP-TSSOP-ST14_N (SOP, 14-Leads, Body 5x4.4mm, Pitch 0.65mm, IPC Medium Density)
footprint MCHP-TSSOP-ST14_L (SOP, 14-Leads, Body 5x4.4mm, Pitch 0.65mm, IPC High Density)
footprint MCHP-TSSOP-ST14_M (SOP, 14-Leads, Body 5x4.4mm, Pitch 0.65mm, IPC Low Density)
pins: 1 VDD (power) "Positive supply.", 2 RA5/CLKIN/OSC1/T1OSI/T1CKI/SRNQ/P1A/CCP1/DT/RX (io), 3 RA4/AN3/CPS3/OSC2/CLKOUT/T1OSO/C1IN1-/CLKR/SDO/CK/TX/P1B/T1G/MDCIN2 (io), 4 RA3/~{SS}/T1G/VPP/~{MCLR} (in), 5 VDDRF (power) "Positive supply.", 6 CTRL (in), 7 RFOUT (out), 8 VSSRF (power) "Ground reference", 9 DATA (io), 10 XTAL, 11 RA2/AN2/CPS2/C1OUT/SRQ/T0CKI/CCP1/P1A/FLT0/SDA/SDI/INT/MDCIN1 (io), 12 RA1/AN1/CPS1/VREF/C1IN0-/SRI/RX/DT/SCL/SCK/MDMIN/ICSPCLK (io), 13 RA0/AN0/CPS0/C1IN+/DACOUT/TX/CK/SDO/~{SS}/P1B/MDOUT/ICSPDAT (io), 14 VSS (power) "Ground reference"

## PIC12LF1840T-I/MF
designator U?
Flash Microcontroller with XLP Technology, 32 MHz, 5 I/O, -40 to 85 degC, 8-pin DFN (MF8), Tape and Reel; Manufacturer: Microchip; PartNumber: PIC12LF1840T-I/MF; # of A/D Channels: 4; Digital Communication: 1 -A/E/USART, 1 -MSSP(SPI/I2C); EEPROM Data Memory (bytes): 256; I/O Pins: 5; Internal Oscillator: 32 MHz, 31 kHz; Max. CPU Speed MHz: 32; Operation Voltage Range: 1.8V - 3.6V; Packing: T/R; Program Memory KBytes: 7; Timers: 2 - 8-bit, 1 - 16-bit, 0 - 32-bit; DatasheetVersion: Rev. C; PackageVersion: C04-062C, 12/2012; PackageReference: DFN-MF8; PackageDescription: 8-Lead Plastic Dual Flat, No Lead Package, 3 x 3 mm Body, 0.65 mm Pitch; Supplier 1: Digi-Key; Supplier Part Number 1: PIC12LF1840T-I/MF-ND; Supplier 2: Mouser; Supplier Part Number 2: 579-PIC12LF1840TIMF; Memory Type: Flash; Program Memory KWords: 4; RAM: 256; Mounting Technology: Surface Mount; ComponentLink1Description: Datasheet; ComponentLink1URL: http://ww1.microchip.com/downloads/en/DeviceDoc/41441C.pdf; ComponentLink2Description: Package Specification; ComponentLink2URL: http://www.microchip.com/stellent/groups/techpub_sg/documents/packagingspec/en012702.pdf; ComponentLink3Description: URL Link1; ComponentLink3URL: Product URL:http://www.microchip.com/datasheet/PIC12F1840
footprint MCHP-DFN-MF8_V (SON, 8-Leads, Body 3x3mm, Pitch 0.65mm, Thermal Pad 2.4x1.55mm)
pins: 1 VDD (power) "Positive supply.", 2 RA5 (io), 3 RA4 (io), 4 RA3/~{MCLR}/VPP (in), 5 RA2 (io), 6 RA1/ICSPCLK (io), 7 RA0/ICSPDAT (io), 8 VSS (power) "Ground reference.", 9 EP

## PIC12LF1840T-I/SN
designator U?
Flash Microcontroller with XLP Technology, 32 MHz, 5 I/O, -40 to 85 degC, 8-pin SOIC (SN8), Tape and Reel; Manufacturer: Microchip; PartNumber: PIC12LF1840T-I/SN; # of A/D Channels: 4; Digital Communication: 1 -A/E/USART, 1 -MSSP(SPI/I2C); EEPROM Data Memory (bytes): 256; I/O Pins: 5; Internal Oscillator: 32 MHz, 31 kHz; Max. CPU Speed MHz: 32; Operation Voltage Range: 1.8V - 3.6V; Packing: T/R; Program Memory KBytes: 7; Timers: 2 - 8-bit, 1 - 16-bit, 0 - 32-bit; DatasheetVersion: Rev. C; PackageVersion: C04-057C, 12/2012; PackageReference: SOIC-SN8; PackageDescription: 8-Lead Plastic Small Outline, 4.9 x 3.9 mm Body, 1.27 mm Pitch; Supplier 1: Digi-Key; Supplier Part Number 1: PIC12LF1840T-I/SN-ND; Supplier 2: Mouser; Supplier Part Number 2: 579-PIC12LF1840TISN; Memory Type: Flash; Program Memory KWords: 4; RAM: 256; Mounting Technology: Surface Mount; ComponentLink1Description: Datasheet; ComponentLink1URL: http://ww1.microchip.com/downloads/en/DeviceDoc/41441C.pdf; ComponentLink2Description: Package Specification; ComponentLink2URL: http://www.microchip.com/stellent/groups/techpub_sg/documents/packagingspec/en012702.pdf; ComponentLink3Description: URL Link1; ComponentLink3URL: Product URL:http://www.microchip.com/datasheet/PIC12F1840
footprint MCHP-SOIC-SN8_N (SOIC, 8-Leads, Body 4.9x3.9mm, Pitch 1.27mm, IPC Medium Density)
footprint MCHP-SOIC-SN8_L (SOIC, 8-Leads, Body 4.9x3.9mm, Pitch 1.27mm, IPC High Density)
footprint MCHP-SOIC-SN8_M (SOIC, 8-Leads, Body 4.9x3.9mm, Pitch 1.27mm, IPC Low Density)
pins: 1 VDD (power) "Positive supply.", 2 RA5 (io), 3 RA4 (io), 4 RA3/~{MCLR}/VPP (in), 5 RA2 (io), 6 RA1/ICSPCLK (io), 7 RA0/ICSPDAT (io), 8 VSS (power) "Ground reference."